# Altium schematic symbol library SCH_LIB_Microcontroller.SchLib: 10 symbols
Pins are listed as number, name and electrical type; pins without a type are passive.

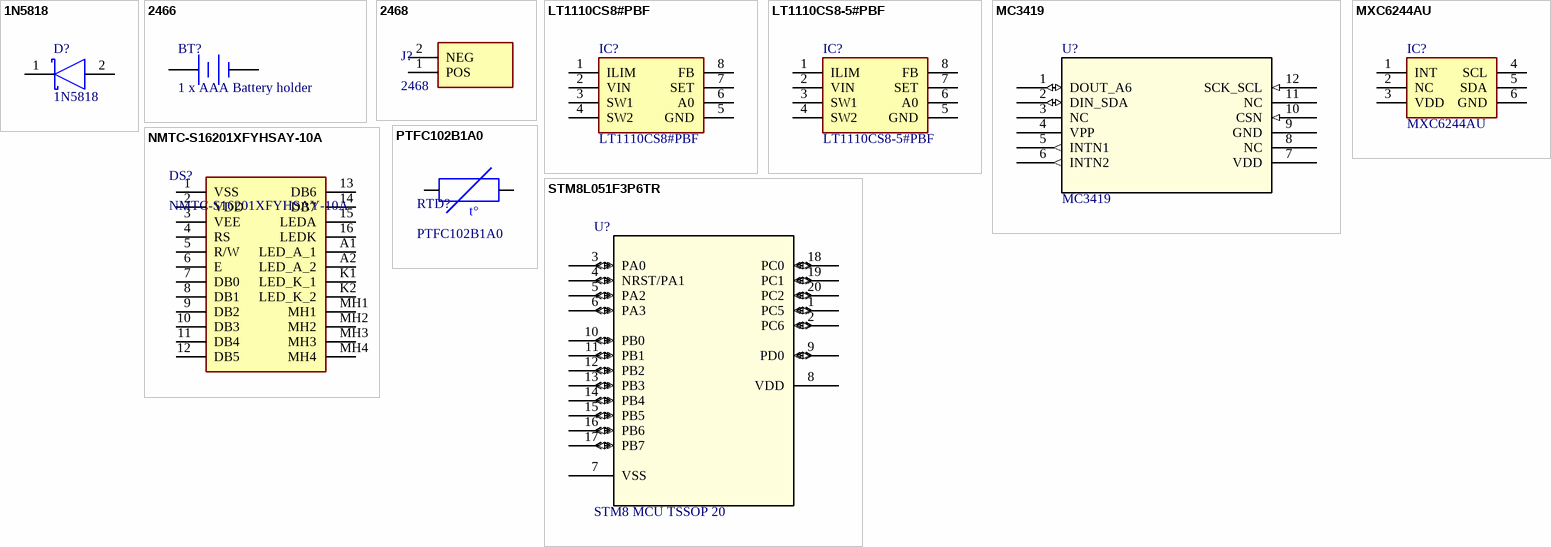
[diagram p0: symbols 1N5818 to STM8L051F3P6TR]

## 1N5818
designator D?
Schottky Diodes & Rectifiers Vr/30V Io/1A; Manufacturer_Name: STMicroelectronics; Datasheet Link: http://www.st.com/web/en/resource/technical/document/datasheet/CD00001625.pdf; Manufacturer_Part_Number: 1N5818; Mouser Part Number: 511-1N5818; Mouser Price/Stock: https://www.mouser.co.uk/ProductDetail/STMicroelectronics/1N5818?qs=JV7lzlMm3yJEIYWKtht%2FsQ%3D%3D; Arrow Part Number: 1N5818; Arrow Price/Stock: https://www.arrow.com/en/products/1n5818/stmicroelectronics?region=nac; Supplier 1: Mouser; Supplier Part Number 1: 511-1N5818
footprint DIOAD1414W86L464D238
pins: 1 K, 2 A

## 2466
designator BT?, comment 1 x AAA Battery holder
Cylindrical Battery Contacts, Clips, Holders & Springs AAA P.C.B HOLDER; Mfr_Name: Keystone Electronics; Manufacturer_Part_Number: 2466; Copyright: Copyright (C) 2021 Ultra Librarian. All rights reserved.; RefDes: RefDes; Supplier 1: Mouser; Supplier 2: Farnell; Supplier Part Number 1: 534-2466; Supplier Part Number 2: 1702632; Type: BT
footprint 2466_KEY
pins: 0, 0 10

## 2468
designator J?
Cylindrical Battery Contacts, Clips, Holders & Springs 2AAA PC MNT HOLDER; Manufacturer_Name: Keystone Electronics; Description: Cylindrical Battery Contacts; Datasheet Link: https://datasheet.datasheetarchive.com/originals/distributors/Datasheets-AE/DSA3AE00005.pdf; Manufacturer_Part_Number: 2468; Mouser Part Number: 534-2468; Mouser Price/Stock: https://www.mouser.co.uk/ProductDetail/Keystone-Electronics/2468?qs=3CbvriavsLAoISGi3MywrQ%3D%3D; Arrow Part Number: 2468; Arrow Price/Stock: http://www.arrow.com/en/products/2468/keystone-electronics-corp
footprint 2468
pins: 1 POS, 2 NEG

## LT1110CS8#PBF
designator IC?
Switching Voltage Regulators Micropower DC-DC Converter Adjustable and Fixed 5V, 12V; Manufacturer_Name: Linear Technology; Datasheet Link: https://www.analog.com/media/en/technical-documentation/data-sheets/lt1110.pdf; Height: 1.752mm; Manufacturer_Part_Number: LT1110CS8#PBF; Mouser Part Number: 584-LT1110CS8#PBF; Mouser Price/Stock: https://www.mouser.com/Search/Refine.aspx?Keyword=584-LT1110CS8%23PBF; Supplier 1: Mouser; Supplier Part Number 1: 584-LT1110CS8#PBF
footprint SOIC127P599X175-8N
pins: 1 ILIM, 2 VIN, 3 SW1, 4 SW2, 5 GND, 6 A0, 7 SET, 8 FB

## LT1110CS8-5#PBF
designator IC?
Switching Voltage Regulators Micropower DC-DC Converter Fixed 5V; Manufacturer_Name: Linear Technology; Datasheet Link: https://www.analog.com/media/en/technical-documentation/data-sheets/lt1110.pdf; Height: 1.752mm; Manufacturer_Part_Number: LT1110CS8-5#PBF; Supplier 1: Mouser; Supplier Part Number 1: 584-LT1110CS8-5#PBF
footprint SOIC127P599X175-8N
pins: 1 ILIM, 2 VIN, 3 SW1, 4 SW2, 5 GND, 6 A0, 7 SET, 8 FB

## MC3419
designator U?
Ultra low power 3-Axis Accelerometer on I2C; Mfr_Name: Memsic; Copyright: Copyright (C) 2021 Ultra Librarian. All rights reserved.; Manufacturer_Part_Number: MC3419; RefDes: RefDes; Type: DEV; Supplier 1: Mouser; Supplier 2: Mouser; Supplier Part Number 2: 498-MC3419; Supplier Part Number 1: 498-MC3419
footprint VLGA-12_MEM
footprint VLGA-12_MEM-L
footprint VLGA-12_MEM-M
pins: 1 DOUT_A6 (io), 2 DIN_SDA (io), 3 NC, 4 VPP (power), 5 INTN1 (out), 6 INTN2 (out), 7 VDD (power), 8 NC, 9 GND, 10 CSN (in), 11 NC, 12 SCK_SCL (in)

## MXC6244AU
designator IC?
Accelerometers +/- 8g Complete 2 Axis Accelerometer System with Programmable Internal anti-vibration Filter; Manufacturer_Name: MEMSIC; Datasheet Link: https://componentsearchengine.com/Datasheets/1/MXC6244AU.pdf; Height: 1.3mm; Manufacturer_Part_Number: MXC6244AU; Mouser Part Number: 438-MXC6244AU; Mouser Price/Stock: https://www.mouser.co.uk/ProductDetail/MEMSIC/MXC6244AU?qs=uBbGm2YIKJILg44aLNvpFw%3D%3D; Supplier 1: Mouser; Supplier Part Number 1: 438-MXC6244AU
footprint MXC6244AU
pins: 1 INT, 2 NC, 3 VDD, 4 SCL, 5 SDA, 6 GND

## NMTC-S16201XFYHSAY-10A
designator DS?
LCD 2x16 Character Display Modules & Accessories Yl/Grn Transflective Yl/Grn LED Backligh; Manufacturer_Name: Microtips Technology; Datasheet Link: https://www.mouser.in/datasheet/2/271/Microtips-04-17-2018-NMTC-S16201XFYHSAY-10A-1369874.pdf; Height: 14mm; Manufacturer_Part_Number: NMTC-S16201XFYHSAY-10A; Mouser Part Number: 668-NMTCS162XFAY10A; Mouser Price/Stock: https://www.mouser.co.uk/ProductDetail/Microtips-Technology/NMTC-S16201XFYHSAY-10A?qs=55YtniHzbhC8fwKno8aHoQ%3D%3D
footprint NMTCS16201XFYHSAY10A
pins: 1 VSS, 2 VDD, 3 VEE, 4 RS, 5 R/W, 6 E, 7 DB0, 8 DB1, 9 DB2, 10 DB3, 11 DB4, 12 DB5, 13 DB6, 14 DB7, 15 LEDA, 16 LEDK, A1 LED_A_1, A2 LED_A_2, K1 LED_K_1, K2 LED_K_2, MH1, MH2, MH3, MH4

## PTFC102B1A0
designator RTD?
Platinum Thin Film Industrial Temperature Sensor, Type C, PT1000, Class B, Ag wire; Manufacturer: TE Connectivity; Sensor Family: PTF; Nominal Resistance: 1k Ohm; Tolerance Class Standard: DIN EN 60751; Supplier 1: Mouser; Manufacturer Part Number: PTFC102B1A0; RoHS: Yes; Stock 1: 7260; Pricing 1: 1=1,92000, 10=1,21000, 50=1,21000, 100=1,02000, 1000=0,85200, 10000=0,74200 (USD); RoHS Compliant: Yes; Supplier Part Number 1: 824-PTFC102B1A0; Type: C; Outline Dimensions: 2.0 x 2.3 mm; Tolerance Class: B; Connection Wire: Ag
footprint PTFC
pins: 0, 1
text: t°

## STM8L051F3P6TR
designator U?, comment STM8 MCU TSSOP 20
Value Line, 8-bit ultralow power MCU, 8-KB Flash, / 256-byte data EEPROM, RTC, timers, USART, I2C, SPI, ADC; Mfr_Name: STMicroelectronics; Manufacturer_Part_Number: STM8L051F3P6TR; Copyright: Copyright (C) 2021 Ultra Librarian. All rights reserved.; RefDes: RefDes; Type: DEV; Supplier 1: Mouser; Supplier Part Number 1: 511-STM8L051F3P6TR
footprint TSSOP20
footprint TSSOP20-L
footprint TSSOP20-M
pins: 1 PC5 (io), 2 PC6 (io), 3 PA0 (io), 4 NRST/PA1 (io), 5 PA2 (io), 6 PA3 (io), 7 VSS (power), 8 VDD (power), 9 PD0 (io), 10 PB0 (io), 11 PB1 (io), 12 PB2 (io), 13 PB3 (io), 14 PB4 (io), 15 PB5 (io), 16 PB6 (io), 17 PB7 (io), 18 PC0 (io), 19 PC1 (io), 20 PC2 (io)